# Altium schematic symbol library 618 0xx 293 21.SchLib: 4 symbols
Pins are listed as number, name and electrical type; pins without a type are passive.

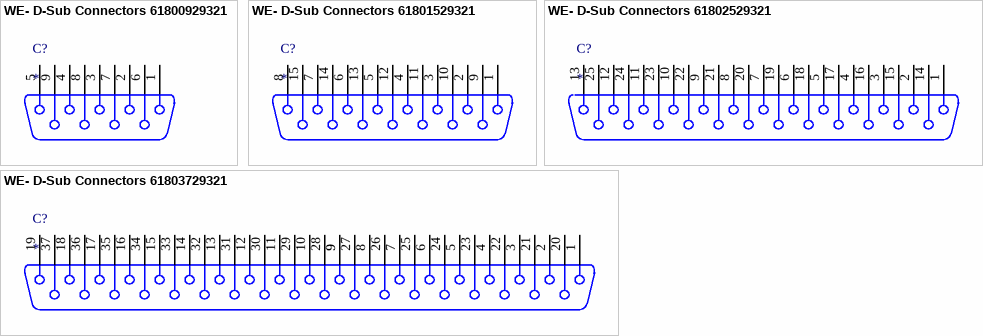
[diagram p0: symbols WE- D-Sub Connectors 61800929321 to WE- D-Sub Connectors 61803729321]

## WE- D-Sub Connectors 61800929321
designator C?
WR-DSUB Female PCB Connector; Manufacturer: Würth Elektronik eiSos GmbH; partNo: 61800929321; ComponentLink1 Description: Manufacturer; ComponentLink2 Description: Datasheet; NoPins: 9; ComponentLink1URL: http://www.we-online.de; ComponentLink2URL: http://katalog.we-online.de/em/datasheet/6180xx29321.pdf; Created by: Karrer Zheng; Created Date: 10/16/2014
footprint 61800929321
pins: 1, 2, 3, 4, 5, 6, 7, 8, 9

## WE- D-Sub Connectors 61801529321
designator C?
WR-DSUB Female PCB Connector; Manufacturer: Würth Elektronik eiSos GmbH; partNo: 61801529321; ComponentLink1 Description: Manufacturer; ComponentLink2 Description: Datasheet; NoPins: 15; ComponentLink1URL: http://www.we-online.de; ComponentLink2URL: http://katalog.we-online.de/em/datasheet/6180xx29321.pdf; Created by: Karrer Zheng; Created Date: 10/16/2014
footprint 61801529321
pins: 1, 2, 3, 4, 5, 6, 7, 8, 9, 10, 11, 12, 13, 14, 15

## WE- D-Sub Connectors 61802529321
designator C?
WR-DSUB Female PCB Connector; Manufacturer: Würth Elektronik eiSos GmbH; partNo: 61802529321; ComponentLink1 Description: Manufacturer; ComponentLink2 Description: Datasheet; NoPins: 25; ComponentLink1URL: http://www.we-online.de; ComponentLink2URL: http://katalog.we-online.de/em/datasheet/6180xx29321.pdf; Created by: Karrer Zheng; Created Date: 10/16/2014
footprint 61802529321
pins: 1, 2, 3, 4, 5, 6, 7, 8, 9, 10, 11, 12, 13, 14, 15, 16, 17, 18, 19, 20, 21, 22, 23, 24, 25

## WE- D-Sub Connectors 61803729321
designator C?
WR-DSUB Female PCB Connector; Manufacturer: Würth Elektronik eiSos GmbH; partNo: 61803729321; ComponentLink1 Description: Manufacturer; ComponentLink2 Description: Datasheet; NoPins: 37; ComponentLink1URL: http://www.we-online.de; ComponentLink2URL: http://katalog.we-online.de/em/datasheet/6180xx29321.pdf; Created by: Karrer Zheng; Created Date: 10/16/2014
footprint 61803729321
pins: 1, 2, 3, 4, 5, 6, 7, 8, 9, 9, 10, 11, 12, 13, 14, 15, 16, 17, 18, 19, 20, 21, 22, 23, 24, 25, 26, 27, 28, 29, 30, 31, 32, 33, 34, 35, 36, 37